# EAGLE library part LEGACY_BOOTLOADER-QFN (library Teensy_DIY_v1.0)
This is the legacy Minitan54 bootloader from PJRC.com. It can come in a TQFP-48, and a QFN 4x4mm or 5x5mm version.This library only contains the footprint for the QFN 5x5mm package. Note, while Pauls schematic mentions connections to 3.4 and 3.5, these are not used and will never be used. This chip is deprecated and will only bootload a Teensy3.0 and 3.1 MCU ( MK20D128 and MK20D256). The Teensy LC MCU (MKL26Z) is not supported by this bootloader! See https://www.pjrc.com/store/ic_mini54_tqfp.html
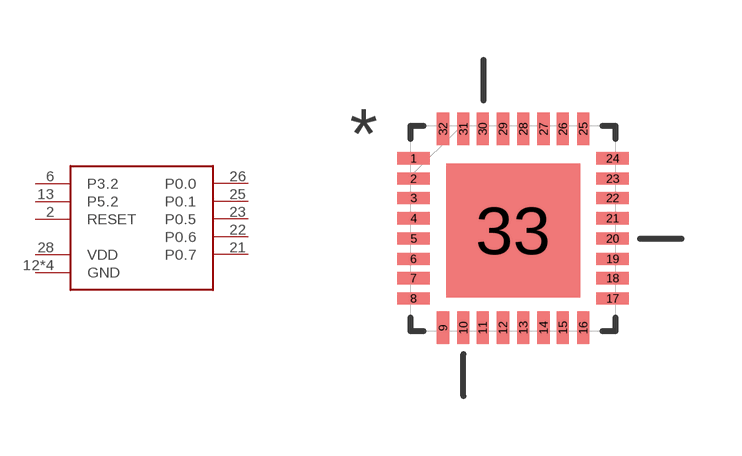
[diagram p5: symbol with the pads of QFN50P500X500X100-33N; footprint QFN50P500X500X100-33N]

Designator prefix -

## LEGACY_BOOTLOADER-QFNQFN5X5MM  [QFN50P500X500X100-33N]
2  RESET
6  P3.2
12  GND
13  P5.2
17  GND
21  P0.7
22  P0.6
23  P0.5
25  P0.1
26  P0.0
28  VDD
32  GND
33  GND

## Footprint QFN50P500X500X100-33N (pad centres in mm)
smd 0.813 x 0.305: 1 -2.489,1.753; 2 -2.489,1.245; 3 -2.489,0.762; 4 -2.489,0.254; 5 -2.489,-0.254; 6 -2.489,-0.762; 7 -2.489,-1.245; 8 -2.489,-1.753; 17 2.489,-1.753; 18 2.489,-1.245; 19 2.489,-0.762; 20 2.489,-0.254; 21 2.489,0.254; 22 2.489,0.762; 23 2.489,1.245; 24 2.489,1.753
smd 0.305 x 0.813: 9 -1.753,-2.489; 10 -1.245,-2.489; 11 -0.762,-2.489; 12 -0.254,-2.489; 13 0.254,-2.489; 14 0.762,-2.489; 15 1.245,-2.489; 16 1.753,-2.489; 25 1.753,2.489; 26 1.245,2.489; 27 0.762,2.489; 28 0.254,2.489; 29 -0.254,2.489; 30 -0.762,2.489; 31 -1.245,2.489; 32 -1.753,2.489
smd 3.353 x 3.353: 33 0,-0.051